# Altium schematic symbol library StageDesign Props.SchLib: 13 symbols
Pins are listed as number, name and electrical type; pins without a type are passive.

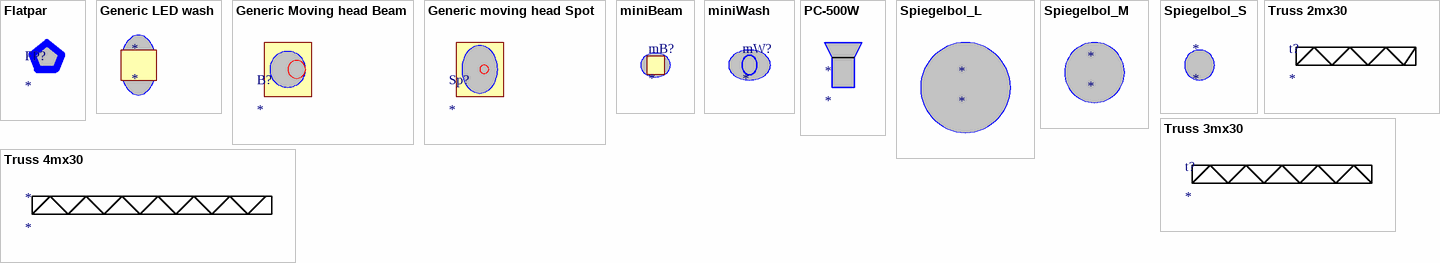
[diagram p0: symbols Flatpar to Truss 4mx30]

## Flatpar
designator FP?
Symbol Flatpar

## Generic LED wash
designator *

## Generic Moving head Beam
designator B?
Symbol Beam

## Generic moving head Spot
designator Sp?
Symbol Spot

## miniBeam
designator mB?
Symbol miniBeam

## miniWash
designator mW?
symbol miniWash

## PC-500W
designator *

## Spiegelbol_L
designator *

## Spiegelbol_M
designator *

## Spiegelbol_S
designator *

## Truss 2mx30
designator t?
Generic 2mx30 truss

## Truss 3mx30
designator t?
Generic 3mx30 truss

## Truss 4mx30
designator *
Generic 4mx30 truss